# EAGLE library part XC95144 (library xl_cpld)
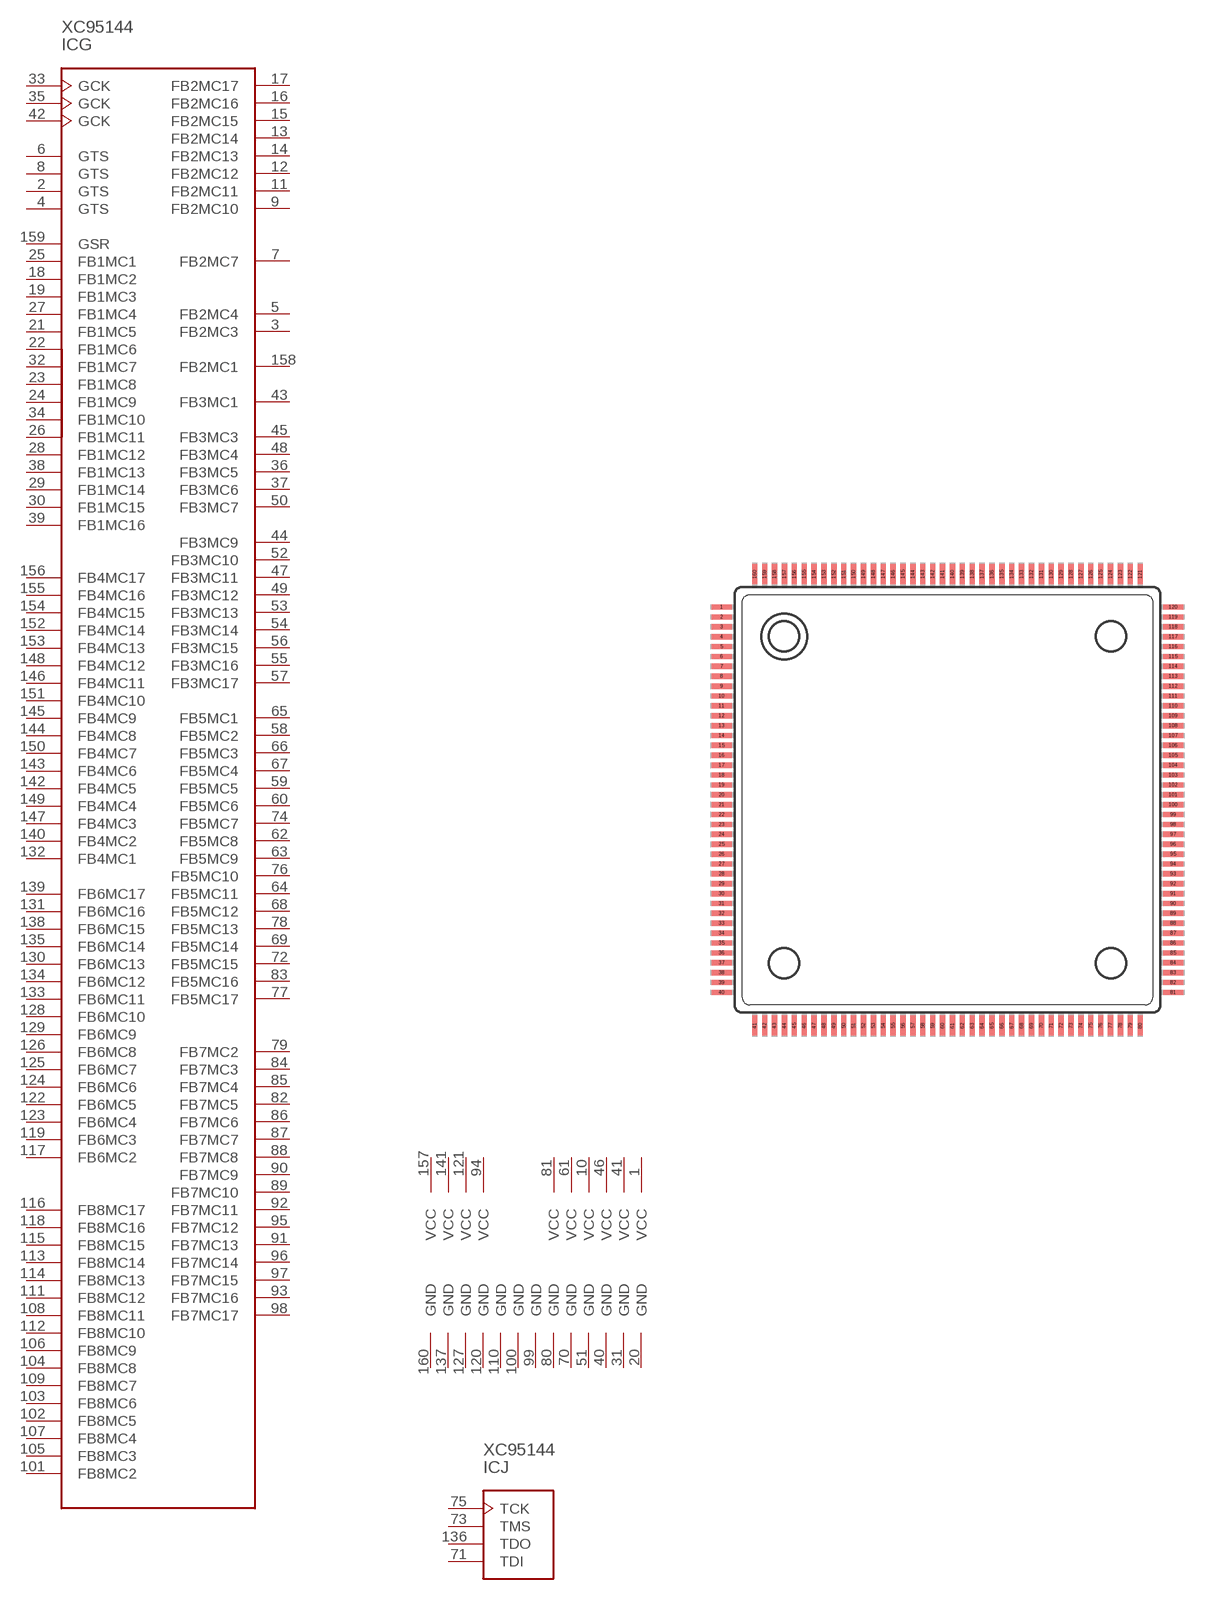
[diagram p3: symbol with the pads of QFP160; footprint QFP160]

Designator prefix IC; gates G=XC95144P J=JTAG P=PWR_144

## XC95144  [QFP160]
1  P:VCC  pwr
2  G:GTS  in
3  G:FB2MC3
4  G:GTS  in
5  G:FB2MC4
6  G:GTS  in
7  G:FB2MC7
8  G:GTS  in
9  G:FB2MC10
10  P:VCC  pwr
11  G:FB2MC11
12  G:FB2MC12
13  G:FB2MC14
14  G:FB2MC13
15  G:FB2MC15
16  G:FB2MC16
17  G:FB2MC17
18  G:FB1MC2
19  G:FB1MC3
20  P:GND  pwr
21  G:FB1MC5
22  G:FB1MC6
23  G:FB1MC8
24  G:FB1MC9
25  G:FB1MC1
26  G:FB1MC11
27  G:FB1MC4
28  G:FB1MC12
29  G:FB1MC14
30  G:FB1MC15
31  P:GND  pwr
32  G:FB1MC7
33  G:GCK  in
34  G:FB1MC10
35  G:GCK  in
36  G:FB3MC5
37  G:FB3MC6
38  G:FB1MC13
39  G:FB1MC16
40  P:GND  pwr
41  P:VCC  pwr
42  G:GCK  in
43  G:FB3MC1
44  G:FB3MC9
45  G:FB3MC3
46  P:VCC  pwr
47  G:FB3MC11
48  G:FB3MC4
49  G:FB3MC12
50  G:FB3MC7
51  P:GND  pwr
52  G:FB3MC10
53  G:FB3MC13
54  G:FB3MC14
55  G:FB3MC16
56  G:FB3MC15
57  G:FB3MC17
58  G:FB5MC2
59  G:FB5MC5
60  G:FB5MC6
61  P:VCC  pwr
62  G:FB5MC8
63  G:FB5MC9
64  G:FB5MC11
65  G:FB5MC1
66  G:FB5MC3
67  G:FB5MC4
68  G:FB5MC12
69  G:FB5MC14
70  P:GND  pwr
71  J:TDI  in
72  G:FB5MC15
73  J:TMS  in
74  G:FB5MC7
75  J:TCK  in
76  G:FB5MC10
77  G:FB5MC17
78  G:FB5MC13
79  G:FB7MC2
80  P:GND  pwr
81  P:VCC  pwr
82  G:FB7MC5
83  G:FB5MC16
84  G:FB7MC3
85  G:FB7MC4
86  G:FB7MC6
87  G:FB7MC7
88  G:FB7MC8
89  G:FB7MC10
90  G:FB7MC9
91  G:FB7MC13
92  G:FB7MC11
93  G:FB7MC16
94  P:VCC  pwr
95  G:FB7MC12
96  G:FB7MC14
97  G:FB7MC15
98  G:FB7MC17
99  P:GND  pwr
100  P:GND  pwr
101  G:FB8MC2
102  G:FB8MC5
103  G:FB8MC6
104  G:FB8MC8
105  G:FB8MC3
106  G:FB8MC9
107  G:FB8MC4
108  G:FB8MC11
109  G:FB8MC7
110  P:GND  pwr
111  G:FB8MC12
112  G:FB8MC10
113  G:FB8MC14
114  G:FB8MC13
115  G:FB8MC15
116  G:FB8MC17
117  G:FB6MC2
118  G:FB8MC16
119  G:FB6MC3
120  P:GND  pwr
121  P:VCC  pwr
122  G:FB6MC5
123  G:FB6MC4
124  G:FB6MC6
125  G:FB6MC7
126  G:FB6MC8
127  P:GND  pwr
128  G:FB6MC10
129  G:FB6MC9
130  G:FB6MC13
131  G:FB6MC16
132  G:FB4MC1
133  G:FB6MC11
134  G:FB6MC12
135  G:FB6MC14
136  J:TDO  out
137  P:GND  pwr
138  G:FB6MC15
139  G:FB6MC17
140  G:FB4MC2
141  P:VCC  pwr
142  G:FB4MC5
143  G:FB4MC6
144  G:FB4MC8
145  G:FB4MC9
146  G:FB4MC11
147  G:FB4MC3
148  G:FB4MC12
149  G:FB4MC4
150  G:FB4MC7
151  G:FB4MC10
152  G:FB4MC14
153  G:FB4MC13
154  G:FB4MC15
155  G:FB4MC16
156  G:FB4MC17
157  P:VCC  pwr
158  G:FB2MC1
159  G:GSR  in
160  P:GND  pwr

## Footprint QFP160 (pad centres in mm)
smd 1.3 x 0.35: 1 -14.85,12.675; 2 -14.85,12.025; 3 -14.85,11.375; 4 -14.85,10.725; 5 -14.85,10.075; 6 -14.85,9.425; 7 -14.85,8.775; 8 -14.85,8.125; 9 -14.85,7.475; 10 -14.85,6.825; 11 -14.85,6.175; 12 -14.85,5.525; 13 -14.85,4.875; 14 -14.85,4.225; 15 -14.85,3.575; 16 -14.85,2.925; 17 -14.85,2.275; 18 -14.85,1.625; 19 -14.85,0.975; 20 -14.85,0.325; 21 -14.85,-0.325; 22 -14.85,-0.975; 23 -14.85,-1.625; 24 -14.85,-2.275; 25 -14.85,-2.925; 26 -14.85,-3.575; 27 -14.85,-4.225; 28 -14.85,-4.875; 29 -14.85,-5.525; 30 -14.85,-6.175; 31 -14.85,-6.825; 32 -14.85,-7.475; 33 -14.85,-8.125; 34 -14.85,-8.775; 35 -14.85,-9.425; 36 -14.85,-10.075; 37 -14.85,-10.725; 38 -14.85,-11.375; 39 -14.85,-12.025; 40 -14.85,-12.675; 81 14.85,-12.675; 82 14.85,-12.025; 83 14.85,-11.375; 84 14.85,-10.725; 85 14.85,-10.075; 86 14.85,-9.425; 87 14.85,-8.775; 88 14.85,-8.125; 89 14.85,-7.475; 90 14.85,-6.825; 91 14.85,-6.175; 92 14.85,-5.525; 93 14.85,-4.875; 94 14.85,-4.225; 95 14.85,-3.575; 96 14.85,-2.925; 97 14.85,-2.275; 98 14.85,-1.625; 99 14.85,-0.975; 100 14.85,-0.325; 101 14.85,0.325; 102 14.85,0.975; 103 14.85,1.625; 104 14.85,2.275; 105 14.85,2.925; 106 14.85,3.575; 107 14.85,4.225; 108 14.85,4.875; 109 14.85,5.525; 110 14.85,6.175; 111 14.85,6.825; 112 14.85,7.475; 113 14.85,8.125; 114 14.85,8.775; 115 14.85,9.425; 116 14.85,10.075; 117 14.85,10.725; 118 14.85,11.375; 119 14.85,12.025; 120 14.85,12.675
smd 0.35 x 1.3: 41 -12.675,-14.85; 42 -12.025,-14.85; 43 -11.375,-14.85; 44 -10.725,-14.85; 45 -10.075,-14.85; 46 -9.425,-14.85; 47 -8.775,-14.85; 48 -8.125,-14.85; 49 -7.475,-14.85; 50 -6.825,-14.85; 51 -6.175,-14.85; 52 -5.525,-14.85; 53 -4.875,-14.85; 54 -4.225,-14.85; 55 -3.575,-14.85; 56 -2.925,-14.85; 57 -2.275,-14.85; 58 -1.625,-14.85; 59 -0.975,-14.85; 60 -0.325,-14.85; 61 0.325,-14.85; 62 0.975,-14.85; 63 1.625,-14.85; 64 2.275,-14.85; 65 2.925,-14.85; 66 3.575,-14.85; 67 4.225,-14.85; 68 4.875,-14.85; 69 5.525,-14.85; 70 6.175,-14.85; 71 6.825,-14.85; 72 7.475,-14.85; 73 8.125,-14.85; 74 8.775,-14.85; 75 9.425,-14.85; 76 10.075,-14.85; 77 10.725,-14.85; 78 11.375,-14.85; 79 12.025,-14.85; 80 12.675,-14.85; 121 12.675,14.85; 122 12.025,14.85; 123 11.375,14.85; 124 10.725,14.85; 125 10.075,14.85; 126 9.425,14.85; 127 8.775,14.85; 128 8.125,14.85; 129 7.475,14.85; 130 6.825,14.85; 131 6.175,14.85; 132 5.525,14.85; 133 4.875,14.85; 134 4.225,14.85; 135 3.575,14.85; 136 2.925,14.85; 137 2.275,14.85; 138 1.625,14.85; 139 0.975,14.85; 140 0.325,14.85; 141 -0.325,14.85; 142 -0.975,14.85; 143 -1.625,14.85; 144 -2.275,14.85; 145 -2.925,14.85; 146 -3.575,14.85; 147 -4.225,14.85; 148 -4.875,14.85; 149 -5.525,14.85; 150 -6.175,14.85; 151 -6.825,14.85; 152 -7.475,14.85; 153 -8.125,14.85; 154 -8.775,14.85; 155 -9.425,14.85; 156 -10.075,14.85; 157 -10.725,14.85; 158 -11.375,14.85; 159 -12.025,14.85; 160 -12.675,14.85